# Altium schematic symbol library SCH - POWER - LINEAR VREG - TI LP3988-Q1DBV.SchLib: 1 symbol
Pins are listed as number, name and electrical type; pins without a type are passive.

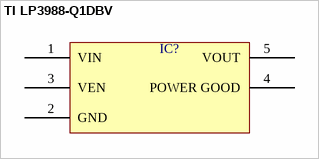
[diagram p0: symbol TI LP3988-Q1DBV]

## TI LP3988-Q1DBV
designator IC?  (value not drawn)
pins: 1 VIN, 2 GND, 3 VEN, 4 POWER GOOD, 5 VOUT